# EAGLE library part 5011902017 (library sbrio_backplane)
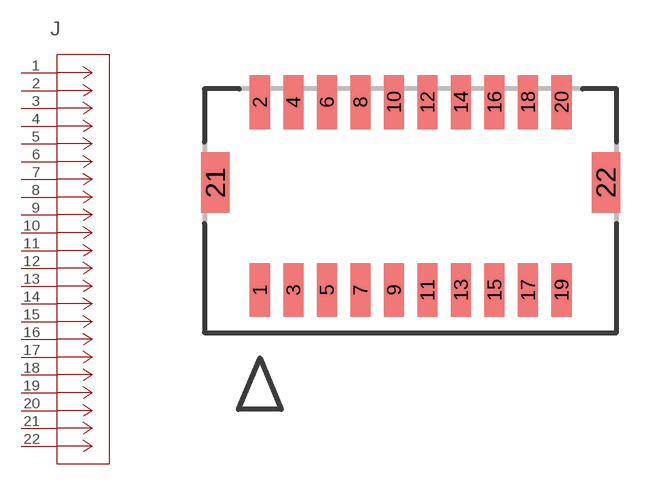
[diagram p1: symbol with the pads of CON_5011902017; footprint CON_5011902017]

Designator prefix J

## 5011902017 (COPYRIGHT: Copyright (C) 2022 Ultra Librarian. All rights reserved.; MANUFACTURER_PART_NUMBER: 5011902017; MFR_NAME: Molex Connector Corporation)  [CON_5011902017]
1  1  pas
2  2  pas
3  3  pas
4  4  pas
5  5  pas
6  6  pas
7  7  pas
8  8  pas
9  9  pas
10  10  pas
11  11  pas
12  12  pas
13  13  pas
14  14  pas
15  15  pas
16  16  pas
17  17  pas
18  18  pas
19  19  pas
20  20  pas
21  21  pas
22  22  pas

## Footprint CON_5011902017 (pad centres in mm)
smd 0.6 x 1.6: 1 0,0; 2 0,5.6; 3 1,0; 4 1,5.6; 5 2,0; 6 2,5.6; 7 3,0; 8 3,5.6; 9 4,0; 10 4,5.6; 11 5,0; 12 5,5.6; 13 6,0; 14 6,5.6; 15 7,0; 16 7,5.6; 17 8,0; 18 8,5.6; 19 9,0; 20 9,5.6
smd 0.85 x 1.8: 21 -1.325,3.2; 22 10.325,3.2